# Altium schematic symbol library TLV320AIC3263IYZFT.SchLib: 1 symbol
Pins are listed as number, name and electrical type; pins without a type are passive.

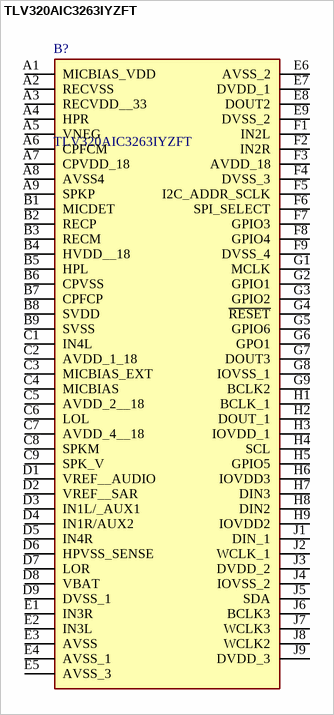
[diagram p0: symbol TLV320AIC3263IYZFT]

## TLV320AIC3263IYZFT
designator B?
Low Power Stereo Audio Codec W/miniDSP, Class-D Speaker, DirectPath Headphone, 4 digital mic support; Manufacturer_Name: Texas Instruments; Geometry.Height: 0.625mm; Mouser Part Number: 595-V320AIC3263IYZFT; Mouser Price/Stock: https://www.mouser.com/Search/Refine.aspx?Keyword=595-V320AIC3263IYZFT; Manufacturer_Part_Number: TLV320AIC3263IYZFT; Datasheet Link: https://www.ti.com/lit/gpn/TLV320AIC3263
footprint BGA81C50P9X9_481X481X62
pins: A1 MICBIAS_VDD, A2 RECVSS, A3 RECVDD__33, A4 HPR, A5 VNEG, A6 CPFCM, A7 CPVDD_18, A8 AVSS4, A9 SPKP, B1 MICDET, B2 RECP, B3 RECM, B4 HVDD__18, B5 HPL, B6 CPVSS, B7 CPFCP, B8 SVDD, B9 SVSS, C1 IN4L, C2 AVDD_1_18, C3 MICBIAS_EXT, C4 MICBIAS, C5 AVDD_2__18, C6 LOL, C7 AVDD_4__18, C8 SPKM, C9 SPK_V, D1 VREF__AUDIO, D2 VREF__SAR, D3 IN1L/_AUX1, D4 IN1R/AUX2, D5 IN4R, D6 HPVSS_SENSE, D7 LOR, D8 VBAT, D9 DVSS_1, E1 IN3R, E2 IN3L, E3 AVSS, E4 AVSS_1, E5 AVSS_3, E6 AVSS_2, E7 DVDD_1, E8 DOUT2, E9 DVSS_2, F1 IN2L, F2 IN2R, F3 AVDD_18, F4 DVSS_3, F5 I2C_ADDR_SCLK, F6 SPI_SELECT, F7 GPIO3, F8 GPIO4, F9 DVSS_4, G1 MCLK, G2 GPIO1, G3 GPIO2, G4 ~{RESET}, G5 GPIO6, G6 GPO1, G7 DOUT3, G8 IOVSS_1, G9 BCLK2, H1 BCLK_1, H2 DOUT_1, H3 IOVDD_1, H4 SCL, H5 GPIO5, H6 IOVDD3, H7 DIN3, H8 DIN2, H9 IOVDD2, J1 DIN_1, J2 WCLK_1, J3 DVDD_2, J4 IOVSS_2, J5 SDA, J6 BCLK3, J7 WCLK3, J8 WCLK2, J9 DVDD_3